# Altium schematic symbol library TPD1E10B09.SchLib: 2 symbols
Pins are listed as number, name and electrical type; pins without a type are passive.

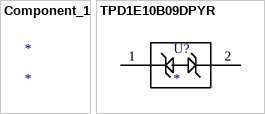
[diagram p0: symbols Component_1 to TPD1E10B09DPYR]

## Component_1
designator *

## TPD1E10B09DPYR
designator U?
Imported; PartNumber: TPD1E10B09DPYR; Manufacturer: Texas Instruments; TYPE_2: TYPE; TYPE: Diode; RefDes: RefDes; TYPE: TYPE; Value: Value
footprint DPY0002A
pins: 1 K, 2 A